# Altium footprint library Header_127.PcbLib: 60 footprints (part 1 of 6)
Each footprint in its own frame and in the unit in brackets; x right, y up, seen from the top. Pads: shape width x height; smd on the part's side, far side on the other; paste and mask are expansions set on the pad; w line width, h text height; cw(c..) or ccw(c..) is an arc to the next point about the centre after c.
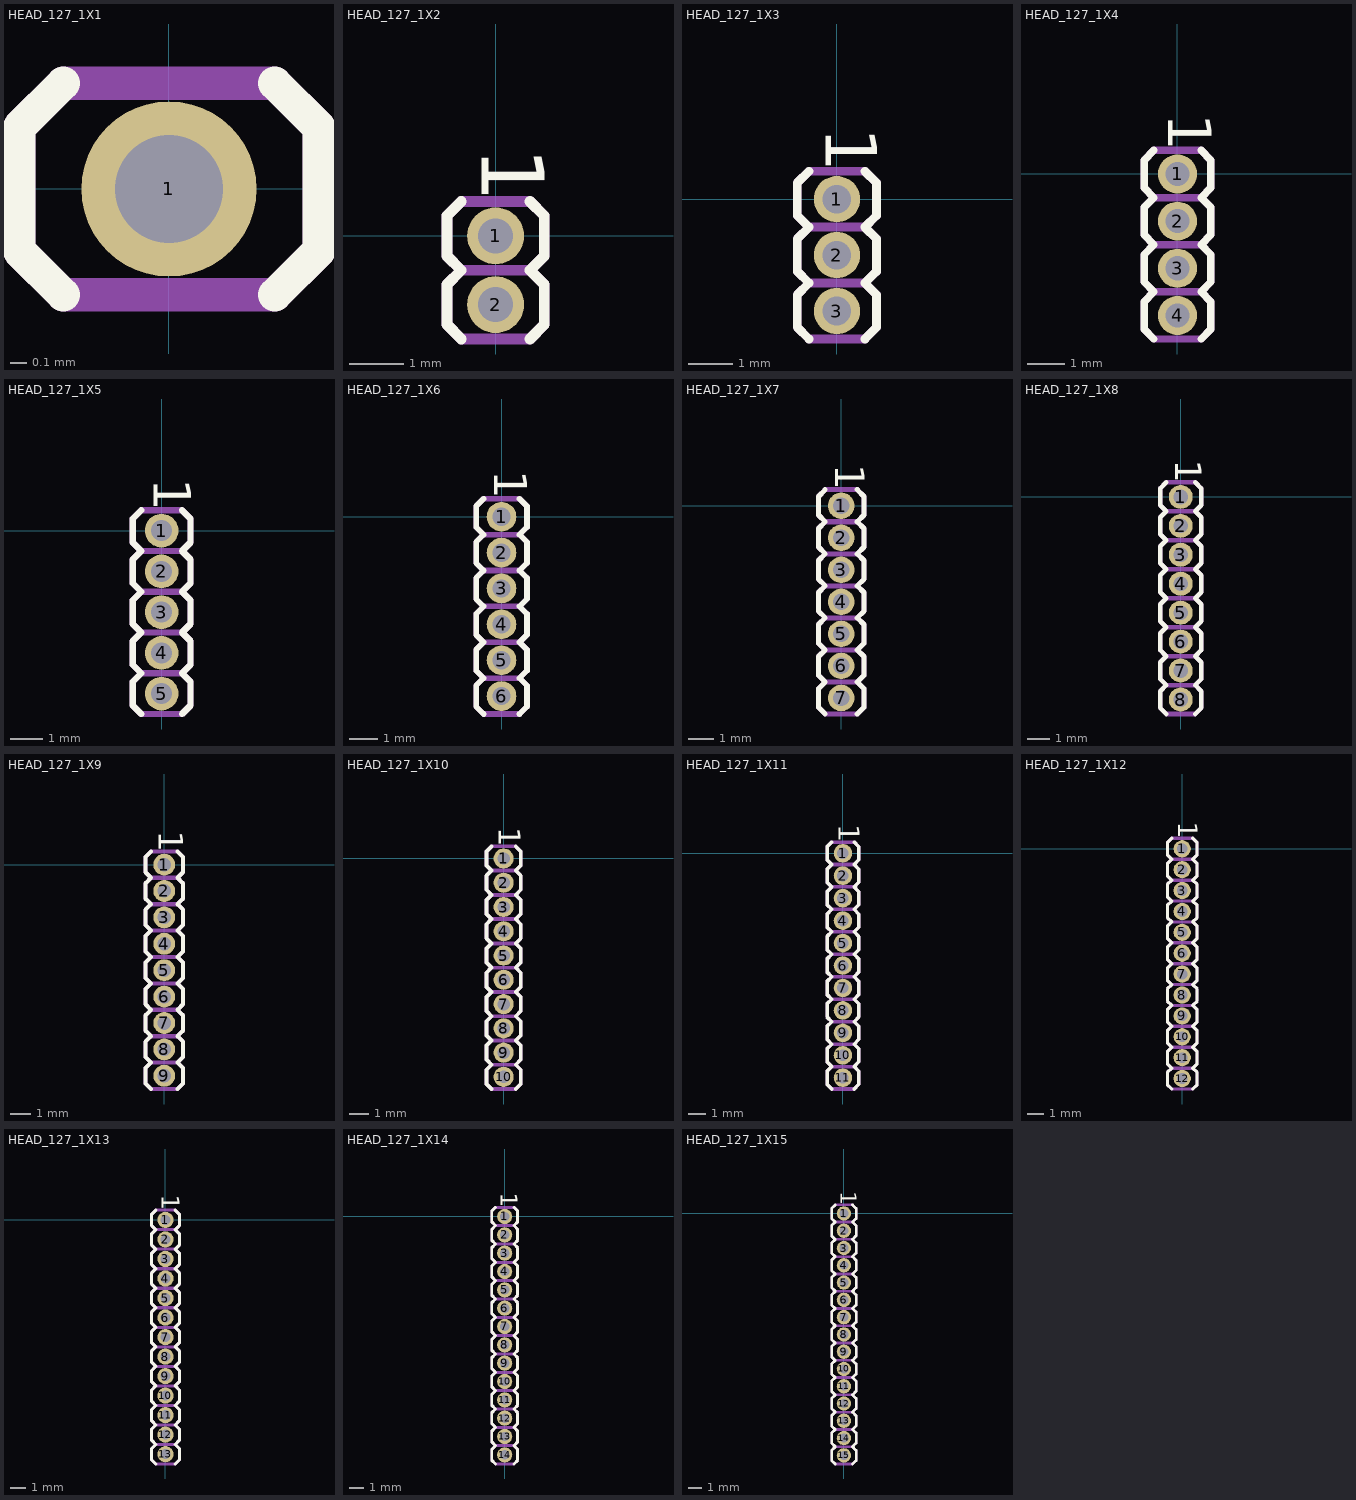
[diagram p0: the footprints below, top view; thin cyan lines are the x and y axes]

## HEAD_127_1X1 [mm] "Header 1.27mm 1x1"
pads (1):
  round 1.05 hole 0.65: 1(0,0)
Top Overlay:
  lines w0.2: -0.635,-0.635 -0.9,-0.37 -0.9,0.37 -0.635,0.635 ; 0.635,-0.635 0.9,-0.37 0.9,0.37 0.635,0.635
Top Assembly:
  lines w0.2: -0.9,-0.37 -0.635,-0.635 0.635,-0.635 0.9,-0.37 0.9,0.37 0.635,0.635 -0.635,0.635 -0.9,0.37 -0.9,-0.37
3D body: height 2, standoff 0, extent -0.9,-0.635 0.9,0.635
3D body: height 10, standoff -3, extent -0.2,-0.2 0.2,0.2

## HEAD_127_1X2 [mm] "Header 1.27mm 1x2"
pads (2):
  round 1.05 hole 0.65: 1(0,0) 2(0,-1.27)
Top Overlay:
  lines w0.2: -0.635,-1.905 -0.9,-1.64 -0.9,-0.9 -0.635,-0.635 -0.9,-0.37 -0.9,0.37 -0.635,0.635 ; 0.635,-1.905 0.9,-1.64 0.9,-0.9 0.635,-0.635 0.9,-0.37 0.9,0.37 0.635,0.635
  text "1" at -0.642,1.636 h2
Bottom Overlay:
  text "1" at -0.642,0.864 h2
Top Assembly:
  lines w0.2: -0.635,-0.635 -0.9,-0.9 -0.9,-1.64 -0.635,-1.905 0.635,-1.905 0.9,-1.64 0.9,-0.9 0.635,-0.635 ; -0.635,-0.635 0.635,-0.635 ; -0.635,-0.635 -0.9,-0.37 -0.9,0.37 -0.635,0.635 0.635,0.635 0.9,0.37 0.9,-0.37 0.635,-0.635 ; -0.635,-0.635 0.635,-0.635
3D body: height 2, standoff 0, extent -0.9,-1.905 0.9,-0.635
3D body: height 10, standoff -3, extent -0.2,-1.47 0.2,-1.07
3D body: height 2, standoff 0, extent -0.9,-0.635 0.9,0.635
3D body: height 10, standoff -3, extent -0.2,-0.2 0.2,0.2

## HEAD_127_1X3 [mm] "Header 1.27mm 1x3"
pads (3):
  round 1.05 hole 0.65: 1(0,0) 2(0,-1.27) 3(0,-2.54)
Top Overlay:
  lines w0.2: -0.635,-3.175 -0.9,-2.91 -0.9,-2.17 -0.635,-1.905 -0.9,-1.64 -0.9,-0.9 -0.635,-0.635 -0.9,-0.37 -0.9,0.37 -0.635,0.635 ; 0.635,-3.175 0.9,-2.91 0.9,-2.17 0.635,-1.905 0.9,-1.64 0.9,-0.9 0.635,-0.635 0.9,-0.37 0.9,0.37 0.635,0.635
  text "1" at -0.642,1.636 h2
Bottom Overlay:
  text "1" at -0.642,0.864 h2
Top Assembly:
  lines w0.2: -0.635,-1.905 0.635,-1.905 ; -0.635,-1.905 -0.9,-2.17 -0.9,-2.91 -0.635,-3.175 0.635,-3.175 0.9,-2.91 0.9,-2.17 0.635,-1.905 ; -0.635,-1.905 0.635,-1.905 ; -0.635,-1.905 -0.9,-1.64 -0.9,-0.9 -0.635,-0.635 ; -0.635,-0.635 0.635,-0.635 ; -0.635,-0.635 0.635,-0.635 ; -0.635,-0.635 -0.9,-0.37 -0.9,0.37 -0.635,0.635 0.635,0.635 0.9,0.37 0.9,-0.37 0.635,-0.635 ; 0.635,-1.905 0.9,-1.64 0.9,-0.9 0.635,-0.635
3D body: height 10, standoff -3, extent -0.2,-2.74 0.2,-2.34
3D body: height 2, standoff 0, extent -0.9,-3.175 0.9,-1.905
3D body: height 10, standoff -3, extent -0.2,-1.47 0.2,-1.07
3D body: height 2, standoff 0, extent -0.9,-1.905 0.9,-0.635
3D body: height 10, standoff -3, extent -0.2,-0.2 0.2,0.2
3D body: height 2, standoff 0, extent -0.9,-0.635 0.9,0.635

## HEAD_127_1X4 [mm] "Header 1.27mm 1x4"
pads (4):
  round 1.05 hole 0.65: 1(0,0) 2(0,-1.27) 3(0,-2.54) 4(0,-3.81)
Top Overlay:
  lines w0.2: -0.635,-4.445 -0.9,-4.18 -0.9,-3.44 -0.635,-3.175 -0.9,-2.91 -0.9,-2.17 -0.635,-1.905 -0.9,-1.64 -0.9,-0.9 -0.635,-0.635 -0.9,-0.37 -0.9,0.37 -0.635,0.635 ; 0.635,-4.445 0.9,-4.18 0.9,-3.44 0.635,-3.175 0.9,-2.91 0.9,-2.17 0.635,-1.905 0.9,-1.64 0.9,-0.9 0.635,-0.635 0.9,-0.37 0.9,0.37 0.635,0.635
  text "1" at -0.642,1.636 h2
Bottom Overlay:
  text "1" at -0.642,0.864 h2
Top Assembly:
  lines w0.2: -0.635,-3.175 0.635,-3.175 ; -0.635,-3.175 -0.9,-3.44 -0.9,-4.18 -0.635,-4.445 0.635,-4.445 0.9,-4.18 0.9,-3.44 0.635,-3.175 ; -0.635,-3.175 -0.9,-2.91 -0.9,-2.17 -0.635,-1.905 ; -0.635,-1.905 0.635,-1.905 ; -0.635,-1.905 -0.9,-1.64 -0.9,-0.9 -0.635,-0.635 ; -0.635,-0.635 0.635,-0.635 ; -0.635,-0.635 -0.9,-0.37 -0.9,0.37 -0.635,0.635 0.635,0.635 0.9,0.37 0.9,-0.37 0.635,-0.635 ; 0.635,-3.175 0.9,-2.91 0.9,-2.17 0.635,-1.905 ; 0.635,-1.905 0.9,-1.64 0.9,-0.9 0.635,-0.635
3D body: height 10, standoff -3, extent -0.2,-4.01 0.2,-3.61
3D body: height 2, standoff 0, extent -0.9,-4.445 0.9,-3.175
3D body: height 10, standoff -3, extent -0.2,-2.74 0.2,-2.34
3D body: height 2, standoff 0, extent -0.9,-3.175 0.9,-1.905
3D body: height 10, standoff -3, extent -0.2,-1.47 0.2,-1.07
3D body: height 2, standoff 0, extent -0.9,-1.905 0.9,-0.635
3D body: height 10, standoff -3, extent -0.2,-0.2 0.2,0.2
3D body: height 2, standoff 0, extent -0.9,-0.635 0.9,0.635

## HEAD_127_1X5 [mm] "Header 1.27mm 1x5"
pads (5):
  round 1.05 hole 0.65: 1(0,0) 2(0,-1.27) 3(0,-2.54) 4(0,-3.81) 5(0,-5.08)
Top Overlay:
  lines w0.2: -0.635,-5.715 -0.9,-5.45 -0.9,-4.71 -0.635,-4.445 -0.9,-4.18 -0.9,-3.44 -0.635,-3.175 -0.9,-2.91 -0.9,-2.17 -0.635,-1.905 -0.9,-1.64 -0.9,-0.9 -0.635,-0.635 -0.9,-0.37 -0.9,0.37 -0.635,0.635 ; 0.635,-5.715 0.9,-5.45 0.9,-4.71 0.635,-4.445 0.9,-4.18 0.9,-3.44 0.635,-3.175 0.9,-2.91 0.9,-2.17 0.635,-1.905 0.9,-1.64 0.9,-0.9 0.635,-0.635 0.9,-0.37 0.9,0.37 0.635,0.635
  text "1" at -0.642,1.636 h2
Bottom Overlay:
  text "1" at -0.642,0.864 h2
Top Assembly:
  lines w0.2: -0.635,-4.445 0.635,-4.445 ; -0.635,-4.445 -0.9,-4.71 -0.9,-5.45 -0.635,-5.715 0.635,-5.715 0.9,-5.45 0.9,-4.71 0.635,-4.445 ; -0.635,-4.445 0.635,-4.445 ; -0.635,-4.445 -0.9,-4.18 -0.9,-3.44 -0.635,-3.175 ; -0.635,-3.175 0.635,-3.175 ; -0.635,-3.175 0.635,-3.175 ; -0.635,-3.175 -0.9,-2.91 -0.9,-2.17 -0.635,-1.905 ; -0.635,-1.905 0.635,-1.905 ; -0.635,-1.905 0.635,-1.905 ; -0.635,-1.905 -0.9,-1.64 -0.9,-0.9 -0.635,-0.635 ; -0.635,-0.635 0.635,-0.635 ; -0.635,-0.635 0.635,-0.635 ; -0.635,-0.635 -0.9,-0.37 -0.9,0.37 -0.635,0.635 0.635,0.635 0.9,0.37 0.9,-0.37 0.635,-0.635 ; 0.635,-4.445 0.9,-4.18 0.9,-3.44 0.635,-3.175 ; 0.635,-3.175 0.9,-2.91 0.9,-2.17 0.635,-1.905 ; 0.635,-1.905 0.9,-1.64 0.9,-0.9 0.635,-0.635
3D body: height 10, standoff -3, extent -0.2,-5.28 0.2,-4.88
3D body: height 2, standoff 0, extent -0.9,-5.715 0.9,-4.445
3D body: height 10, standoff -3, extent -0.2,-4.01 0.2,-3.61
3D body: height 2, standoff 0, extent -0.9,-4.445 0.9,-3.175
3D body: height 10, standoff -3, extent -0.2,-2.74 0.2,-2.34
3D body: height 2, standoff 0, extent -0.9,-3.175 0.9,-1.905
3D body: height 10, standoff -3, extent -0.2,-1.47 0.2,-1.07
3D body: height 2, standoff 0, extent -0.9,-1.905 0.9,-0.635
3D body: height 10, standoff -3, extent -0.2,-0.2 0.2,0.2
3D body: height 2, standoff 0, extent -0.9,-0.635 0.9,0.635

## HEAD_127_1X6 [mm] "Header 1.27mm 1x6"
pads (6):
  round 1.05 hole 0.65: 1(0,0) 2(0,-1.27) 3(0,-2.54) 4(0,-3.81) 5(0,-5.08) 6(0,-6.35)
Top Overlay:
  lines w0.2: -0.635,-6.985 -0.9,-6.72 -0.9,-5.98 -0.635,-5.715 -0.9,-5.45 -0.9,-4.71 -0.635,-4.445 -0.9,-4.18 -0.9,-3.44 -0.635,-3.175 -0.9,-2.91 -0.9,-2.17 -0.635,-1.905 -0.9,-1.64 -0.9,-0.9 -0.635,-0.635 -0.9,-0.37 -0.9,0.37 -0.635,0.635 ; 0.635,-6.985 0.9,-6.72 0.9,-5.98 0.635,-5.715 0.9,-5.45 0.9,-4.71 0.635,-4.445 0.9,-4.18 0.9,-3.44 0.635,-3.175 0.9,-2.91 0.9,-2.17 0.635,-1.905 0.9,-1.64 0.9,-0.9 0.635,-0.635 0.9,-0.37 0.9,0.37 0.635,0.635
  text "1" at -0.642,1.636 h2
Bottom Overlay:
  text "1" at -0.642,0.864 h2
Top Assembly:
  lines w0.2: -0.635,-5.715 -0.9,-5.98 -0.9,-6.72 -0.635,-6.985 0.635,-6.985 0.9,-6.72 0.9,-5.98 0.635,-5.715 ; -0.635,-5.715 0.635,-5.715 ; -0.635,-5.715 -0.9,-5.45 -0.9,-4.71 -0.635,-4.445 ; -0.635,-5.715 0.635,-5.715 ; -0.635,-4.445 0.635,-4.445 ; -0.635,-4.445 -0.9,-4.18 -0.9,-3.44 -0.635,-3.175 ; -0.635,-4.445 0.635,-4.445 ; -0.635,-3.175 0.635,-3.175 ; -0.635,-3.175 -0.9,-2.91 -0.9,-2.17 -0.635,-1.905 ; -0.635,-3.175 0.635,-3.175 ; -0.635,-1.905 0.635,-1.905 ; -0.635,-1.905 -0.9,-1.64 -0.9,-0.9 -0.635,-0.635 ; -0.635,-1.905 0.635,-1.905 ; -0.635,-0.635 0.635,-0.635 ; -0.635,-0.635 -0.9,-0.37 -0.9,0.37 -0.635,0.635 0.635,0.635 0.9,0.37 0.9,-0.37 0.635,-0.635 ; -0.635,-0.635 0.635,-0.635 ; 0.635,-5.715 0.9,-5.45 0.9,-4.71 0.635,-4.445 ; 0.635,-4.445 0.9,-4.18 0.9,-3.44 0.635,-3.175 ; 0.635,-3.175 0.9,-2.91 0.9,-2.17 0.635,-1.905 ; 0.635,-1.905 0.9,-1.64 0.9,-0.9 0.635,-0.635
3D body: height 2, standoff 0, extent -0.9,-6.985 0.9,-5.715
3D body: height 10, standoff -3, extent -0.2,-6.55 0.2,-6.15
3D body: height 2, standoff 0, extent -0.9,-5.715 0.9,-4.445
3D body: height 10, standoff -3, extent -0.2,-5.28 0.2,-4.88
3D body: height 2, standoff 0, extent -0.9,-4.445 0.9,-3.175
3D body: height 10, standoff -3, extent -0.2,-4.01 0.2,-3.61
3D body: height 2, standoff 0, extent -0.9,-3.175 0.9,-1.905
3D body: height 10, standoff -3, extent -0.2,-2.74 0.2,-2.34
3D body: height 2, standoff 0, extent -0.9,-1.905 0.9,-0.635
3D body: height 10, standoff -3, extent -0.2,-1.47 0.2,-1.07
3D body: height 2, standoff 0, extent -0.9,-0.635 0.9,0.635
3D body: height 10, standoff -3, extent -0.2,-0.2 0.2,0.2

## HEAD_127_1X7 [mm] "Header 1.27mm 1x7"
pads (7):
  round 1.05 hole 0.65: 1(0,0) 2(0,-1.27) 3(0,-2.54) 4(0,-3.81) 5(0,-5.08) 6(0,-6.35) 7(0,-7.62)
Top Overlay:
  lines w0.2: -0.635,-8.255 -0.9,-7.99 -0.9,-7.25 -0.635,-6.985 -0.9,-6.72 -0.9,-5.98 -0.635,-5.715 -0.9,-5.45 -0.9,-4.71 -0.635,-4.445 -0.9,-4.18 -0.9,-3.44 -0.635,-3.175 -0.9,-2.91 -0.9,-2.17 -0.635,-1.905 -0.9,-1.64 -0.9,-0.9 -0.635,-0.635 -0.9,-0.37 -0.9,0.37 -0.635,0.635 ; 0.635,-8.255 0.9,-7.99 0.9,-7.25 0.635,-6.985 0.9,-6.72 0.9,-5.98 0.635,-5.715 0.9,-5.45 0.9,-4.71 0.635,-4.445 0.9,-4.18 0.9,-3.44 0.635,-3.175 0.9,-2.91 0.9,-2.17 0.635,-1.905 0.9,-1.64 0.9,-0.9 0.635,-0.635 0.9,-0.37 0.9,0.37 0.635,0.635
  text "1" at -0.642,1.636 h2
Bottom Overlay:
  text "1" at -0.642,0.864 h2
Top Assembly:
  lines w0.2: -0.635,-6.985 0.635,-6.985 ; -0.635,-6.985 -0.9,-6.72 -0.9,-5.98 -0.635,-5.715 ; -0.635,-6.985 0.635,-6.985 ; -0.635,-6.985 -0.9,-7.25 -0.9,-7.99 -0.635,-8.255 0.635,-8.255 0.9,-7.99 0.9,-7.25 0.635,-6.985 ; -0.635,-5.715 0.635,-5.715 ; -0.635,-5.715 -0.9,-5.45 -0.9,-4.71 -0.635,-4.445 ; -0.635,-5.715 0.635,-5.715 ; -0.635,-4.445 0.635,-4.445 ; -0.635,-4.445 -0.9,-4.18 -0.9,-3.44 -0.635,-3.175 ; -0.635,-4.445 0.635,-4.445 ; -0.635,-3.175 0.635,-3.175 ; -0.635,-3.175 -0.9,-2.91 -0.9,-2.17 -0.635,-1.905 ; -0.635,-3.175 0.635,-3.175 ; -0.635,-1.905 0.635,-1.905 ; -0.635,-1.905 -0.9,-1.64 -0.9,-0.9 -0.635,-0.635 ; -0.635,-1.905 0.635,-1.905 ; -0.635,-0.635 0.635,-0.635 ; -0.635,-0.635 -0.9,-0.37 -0.9,0.37 -0.635,0.635 0.635,0.635 0.9,0.37 0.9,-0.37 0.635,-0.635 ; -0.635,-0.635 0.635,-0.635 ; 0.635,-6.985 0.9,-6.72 0.9,-5.98 0.635,-5.715 ; 0.635,-5.715 0.9,-5.45 0.9,-4.71 0.635,-4.445 ; 0.635,-4.445 0.9,-4.18 0.9,-3.44 0.635,-3.175 ; 0.635,-3.175 0.9,-2.91 0.9,-2.17 0.635,-1.905 ; 0.635,-1.905 0.9,-1.64 0.9,-0.9 0.635,-0.635
3D body: height 10, standoff -3, extent -0.2,-0.2 0.2,0.2
3D body: height 2, standoff 0, extent -0.9,-0.635 0.9,0.635
3D body: height 10, standoff -3, extent -0.2,-1.47 0.2,-1.07
3D body: height 2, standoff 0, extent -0.9,-1.905 0.9,-0.635
3D body: height 10, standoff -3, extent -0.2,-2.74 0.2,-2.34
3D body: height 2, standoff 0, extent -0.9,-3.175 0.9,-1.905
3D body: height 10, standoff -3, extent -0.2,-4.01 0.2,-3.61
3D body: height 2, standoff 0, extent -0.9,-4.445 0.9,-3.175
3D body: height 10, standoff -3, extent -0.2,-5.28 0.2,-4.88
3D body: height 2, standoff 0, extent -0.9,-5.715 0.9,-4.445
3D body: height 10, standoff -3, extent -0.2,-6.55 0.2,-6.15
3D body: height 2, standoff 0, extent -0.9,-6.985 0.9,-5.715
3D body: height 10, standoff -3, extent -0.2,-7.82 0.2,-7.42
3D body: height 2, standoff 0, extent -0.9,-8.255 0.9,-6.985

## HEAD_127_1X8 [mm] "Header 1.27mm 1x8"
pads (8):
  round 1.05 hole 0.65: 1(0,0) 2(0,-1.27) 3(0,-2.54) 4(0,-3.81) 5(0,-5.08) 6(0,-6.35) 7(0,-7.62) 8(0,-8.89)
Top Overlay:
  lines w0.2: -0.635,-9.525 -0.9,-9.26 -0.9,-8.52 -0.635,-8.255 -0.9,-7.99 -0.9,-7.25 -0.635,-6.985 -0.9,-6.72 -0.9,-5.98 -0.635,-5.715 -0.9,-5.45 -0.9,-4.71 -0.635,-4.445 -0.9,-4.18 -0.9,-3.44 -0.635,-3.175 -0.9,-2.91 -0.9,-2.17 -0.635,-1.905 -0.9,-1.64 -0.9,-0.9 -0.635,-0.635 -0.9,-0.37 -0.9,0.37 -0.635,0.635 ; 0.635,-9.525 0.9,-9.26 0.9,-8.52 0.635,-8.255 0.9,-7.99 0.9,-7.25 0.635,-6.985 0.9,-6.72 0.9,-5.98 0.635,-5.715 0.9,-5.45 0.9,-4.71 0.635,-4.445 0.9,-4.18 0.9,-3.44 0.635,-3.175 0.9,-2.91 0.9,-2.17 0.635,-1.905 0.9,-1.64 0.9,-0.9 0.635,-0.635 0.9,-0.37 0.9,0.37 0.635,0.635
  text "1" at -0.642,1.636 h2
Bottom Overlay:
  text "1" at -0.642,0.864 h2
Top Assembly:
  lines w0.2: -0.635,-8.255 0.635,-8.255 ; -0.635,-8.255 -0.9,-7.99 -0.9,-7.25 -0.635,-6.985 ; -0.635,-8.255 0.635,-8.255 ; -0.635,-8.255 -0.9,-8.52 -0.9,-9.26 -0.635,-9.525 0.635,-9.525 0.9,-9.26 0.9,-8.52 0.635,-8.255 ; -0.635,-6.985 0.635,-6.985 ; -0.635,-6.985 -0.9,-6.72 -0.9,-5.98 -0.635,-5.715 ; -0.635,-6.985 0.635,-6.985 ; -0.635,-5.715 0.635,-5.715 ; -0.635,-5.715 -0.9,-5.45 -0.9,-4.71 -0.635,-4.445 ; -0.635,-5.715 0.635,-5.715 ; -0.635,-4.445 0.635,-4.445 ; -0.635,-4.445 -0.9,-4.18 -0.9,-3.44 -0.635,-3.175 ; -0.635,-4.445 0.635,-4.445 ; -0.635,-3.175 0.635,-3.175 ; -0.635,-3.175 -0.9,-2.91 -0.9,-2.17 -0.635,-1.905 ; -0.635,-3.175 0.635,-3.175 ; -0.635,-1.905 0.635,-1.905 ; -0.635,-1.905 -0.9,-1.64 -0.9,-0.9 -0.635,-0.635 ; -0.635,-1.905 0.635,-1.905 ; -0.635,-0.635 0.635,-0.635 ; -0.635,-0.635 -0.9,-0.37 -0.9,0.37 -0.635,0.635 0.635,0.635 0.9,0.37 0.9,-0.37 0.635,-0.635 ; -0.635,-0.635 0.635,-0.635 ; 0.635,-8.255 0.9,-7.99 0.9,-7.25 0.635,-6.985 ; 0.635,-6.985 0.9,-6.72 0.9,-5.98 0.635,-5.715 ; 0.635,-5.715 0.9,-5.45 0.9,-4.71 0.635,-4.445 ; 0.635,-4.445 0.9,-4.18 0.9,-3.44 0.635,-3.175 ; 0.635,-3.175 0.9,-2.91 0.9,-2.17 0.635,-1.905 ; 0.635,-1.905 0.9,-1.64 0.9,-0.9 0.635,-0.635
3D body: height 10, standoff -3, extent -0.2,-0.2 0.2,0.2
3D body: height 2, standoff 0, extent -0.9,-0.635 0.9,0.635
3D body: height 10, standoff -3, extent -0.2,-1.47 0.2,-1.07
3D body: height 2, standoff 0, extent -0.9,-1.905 0.9,-0.635
3D body: height 10, standoff -3, extent -0.2,-2.74 0.2,-2.34
3D body: height 2, standoff 0, extent -0.9,-3.175 0.9,-1.905
3D body: height 10, standoff -3, extent -0.2,-4.01 0.2,-3.61
3D body: height 2, standoff 0, extent -0.9,-4.445 0.9,-3.175
3D body: height 10, standoff -3, extent -0.2,-5.28 0.2,-4.88
3D body: height 2, standoff 0, extent -0.9,-5.715 0.9,-4.445
3D body: height 10, standoff -3, extent -0.2,-6.55 0.2,-6.15
3D body: height 2, standoff 0, extent -0.9,-6.985 0.9,-5.715
3D body: height 10, standoff -3, extent -0.2,-7.82 0.2,-7.42
3D body: height 2, standoff 0, extent -0.9,-8.255 0.9,-6.985
3D body: height 10, standoff -3, extent -0.2,-9.09 0.2,-8.69
3D body: height 2, standoff 0, extent -0.9,-9.525 0.9,-8.255

## HEAD_127_1X9 [mm] "Header 1.27mm 1x9"
pads (9):
  round 1.05 hole 0.65: 1(0,0) 2(0,-1.27) 3(0,-2.54) 4(0,-3.81) 5(0,-5.08) 6(0,-6.35) 7(0,-7.62) 8(0,-8.89) 9(0,-10.16)
Top Overlay:
  lines w0.2: -0.635,-10.795 -0.9,-10.53 -0.9,-9.79 -0.635,-9.525 -0.9,-9.26 -0.9,-8.52 -0.635,-8.255 -0.9,-7.99 -0.9,-7.25 -0.635,-6.985 -0.9,-6.72 -0.9,-5.98 -0.635,-5.715 -0.9,-5.45 -0.9,-4.71 -0.635,-4.445 -0.9,-4.18 -0.9,-3.44 -0.635,-3.175 -0.9,-2.91 -0.9,-2.17 -0.635,-1.905 -0.9,-1.64 -0.9,-0.9 -0.635,-0.635 -0.9,-0.37 -0.9,0.37 -0.635,0.635 ; 0.635,-10.795 0.9,-10.53 0.9,-9.79 0.635,-9.525 0.9,-9.26 0.9,-8.52 0.635,-8.255 0.9,-7.99 0.9,-7.25 0.635,-6.985 0.9,-6.72 0.9,-5.98 0.635,-5.715 0.9,-5.45 0.9,-4.71 0.635,-4.445 0.9,-4.18 0.9,-3.44 0.635,-3.175 0.9,-2.91 0.9,-2.17 0.635,-1.905 0.9,-1.64 0.9,-0.9 0.635,-0.635 0.9,-0.37 0.9,0.37 0.635,0.635
  text "1" at -0.642,1.636 h2
Bottom Overlay:
  text "1" at -0.642,0.864 h2
Top Assembly:
  lines w0.2: -0.635,-9.525 -0.9,-9.26 -0.9,-8.52 -0.635,-8.255 ; -0.635,-9.525 0.635,-9.525 ; -0.635,-9.525 -0.9,-9.79 -0.9,-10.53 -0.635,-10.795 0.635,-10.795 0.9,-10.53 0.9,-9.79 0.635,-9.525 ; -0.635,-8.255 0.635,-8.255 ; -0.635,-8.255 -0.9,-7.99 -0.9,-7.25 -0.635,-6.985 ; -0.635,-8.255 0.635,-8.255 ; -0.635,-6.985 0.635,-6.985 ; -0.635,-6.985 -0.9,-6.72 -0.9,-5.98 -0.635,-5.715 ; -0.635,-6.985 0.635,-6.985 ; -0.635,-5.715 0.635,-5.715 ; -0.635,-5.715 -0.9,-5.45 -0.9,-4.71 -0.635,-4.445 ; -0.635,-5.715 0.635,-5.715 ; -0.635,-4.445 0.635,-4.445 ; -0.635,-4.445 -0.9,-4.18 -0.9,-3.44 -0.635,-3.175 ; -0.635,-4.445 0.635,-4.445 ; -0.635,-3.175 0.635,-3.175 ; -0.635,-3.175 -0.9,-2.91 -0.9,-2.17 -0.635,-1.905 ; -0.635,-3.175 0.635,-3.175 ; -0.635,-1.905 0.635,-1.905 ; -0.635,-1.905 -0.9,-1.64 -0.9,-0.9 -0.635,-0.635 ; -0.635,-1.905 0.635,-1.905 ; -0.635,-0.635 0.635,-0.635 ; -0.635,-0.635 -0.9,-0.37 -0.9,0.37 -0.635,0.635 0.635,0.635 0.9,0.37 0.9,-0.37 0.635,-0.635 ; -0.635,-0.635 0.635,-0.635 ; 0.635,-9.525 0.9,-9.26 0.9,-8.52 0.635,-8.255 ; 0.635,-8.255 0.9,-7.99 0.9,-7.25 0.635,-6.985 ; 0.635,-6.985 0.9,-6.72 0.9,-5.98 0.635,-5.715 ; 0.635,-5.715 0.9,-5.45 0.9,-4.71 0.635,-4.445 ; 0.635,-4.445 0.9,-4.18 0.9,-3.44 0.635,-3.175 ; 0.635,-3.175 0.9,-2.91 0.9,-2.17 0.635,-1.905 ; 0.635,-1.905 0.9,-1.64 0.9,-0.9 0.635,-0.635
3D body: height 10, standoff -3, extent -0.2,-0.2 0.2,0.2
3D body: height 2, standoff 0, extent -0.9,-0.635 0.9,0.635
3D body: height 10, standoff -3, extent -0.2,-1.47 0.2,-1.07
3D body: height 2, standoff 0, extent -0.9,-1.905 0.9,-0.635
3D body: height 10, standoff -3, extent -0.2,-2.74 0.2,-2.34
3D body: height 2, standoff 0, extent -0.9,-3.175 0.9,-1.905
3D body: height 10, standoff -3, extent -0.2,-4.01 0.2,-3.61
3D body: height 2, standoff 0, extent -0.9,-4.445 0.9,-3.175
3D body: height 10, standoff -3, extent -0.2,-5.28 0.2,-4.88
3D body: height 2, standoff 0, extent -0.9,-5.715 0.9,-4.445
3D body: height 10, standoff -3, extent -0.2,-6.55 0.2,-6.15
3D body: height 2, standoff 0, extent -0.9,-6.985 0.9,-5.715
3D body: height 10, standoff -3, extent -0.2,-7.82 0.2,-7.42
3D body: height 2, standoff 0, extent -0.9,-8.255 0.9,-6.985
3D body: height 2, standoff 0, extent -0.9,-9.525 0.9,-8.255
3D body: height 10, standoff -3, extent -0.2,-9.09 0.2,-8.69
3D body: height 2, standoff 0, extent -0.9,-10.795 0.9,-9.525
3D body: height 10, standoff -3, extent -0.2,-10.36 0.2,-9.96

## HEAD_127_1X10 [mm] "Header 1.27mm 1x10"
pads (10):
  round 1.05 hole 0.65: 1(0,0) 2(0,-1.27) 3(0,-2.54) 4(0,-3.81) 5(0,-5.08) 6(0,-6.35) 7(0,-7.62) 8(0,-8.89) 9(0,-10.16) 10(0,-11.43)
Top Overlay:
  lines w0.2: -0.635,-12.065 -0.9,-11.8 -0.9,-11.06 -0.635,-10.795 -0.9,-10.53 -0.9,-9.79 -0.635,-9.525 -0.9,-9.26 -0.9,-8.52 -0.635,-8.255 -0.9,-7.99 -0.9,-7.25 -0.635,-6.985 -0.9,-6.72 -0.9,-5.98 -0.635,-5.715 -0.9,-5.45 -0.9,-4.71 -0.635,-4.445 -0.9,-4.18 -0.9,-3.44 -0.635,-3.175 -0.9,-2.91 -0.9,-2.17 -0.635,-1.905 -0.9,-1.64 -0.9,-0.9 -0.635,-0.635 -0.9,-0.37 -0.9,0.37 -0.635,0.635 ; 0.635,-12.065 0.9,-11.8 0.9,-11.06 0.635,-10.795 0.9,-10.53 0.9,-9.79 0.635,-9.525 0.9,-9.26 0.9,-8.52 0.635,-8.255 0.9,-7.99 0.9,-7.25 0.635,-6.985 0.9,-6.72 0.9,-5.98 0.635,-5.715 0.9,-5.45 0.9,-4.71 0.635,-4.445 0.9,-4.18 0.9,-3.44 0.635,-3.175 0.9,-2.91 0.9,-2.17 0.635,-1.905 0.9,-1.64 0.9,-0.9 0.635,-0.635 0.9,-0.37 0.9,0.37 0.635,0.635
  text "1" at -0.642,1.636 h2
Bottom Overlay:
  text "1" at -0.642,0.864 h2
Top Assembly:
  lines w0.2: -0.635,-10.795 -0.9,-11.06 -0.9,-11.8 -0.635,-12.065 0.635,-12.065 0.9,-11.8 0.9,-11.06 0.635,-10.795 ; -0.635,-10.795 -0.9,-10.53 -0.9,-9.79 -0.635,-9.525 ; -0.635,-10.795 0.635,-10.795 ; -0.635,-9.525 -0.9,-9.26 -0.9,-8.52 -0.635,-8.255 ; -0.635,-9.525 0.635,-9.525 ; -0.635,-8.255 0.635,-8.255 ; -0.635,-8.255 -0.9,-7.99 -0.9,-7.25 -0.635,-6.985 ; -0.635,-8.255 0.635,-8.255 ; -0.635,-6.985 0.635,-6.985 ; -0.635,-6.985 -0.9,-6.72 -0.9,-5.98 -0.635,-5.715 ; -0.635,-6.985 0.635,-6.985 ; -0.635,-5.715 0.635,-5.715 ; -0.635,-5.715 -0.9,-5.45 -0.9,-4.71 -0.635,-4.445 ; -0.635,-5.715 0.635,-5.715 ; -0.635,-4.445 0.635,-4.445 ; -0.635,-4.445 -0.9,-4.18 -0.9,-3.44 -0.635,-3.175 ; -0.635,-4.445 0.635,-4.445 ; -0.635,-3.175 0.635,-3.175 ; -0.635,-3.175 -0.9,-2.91 -0.9,-2.17 -0.635,-1.905 ; -0.635,-3.175 0.635,-3.175 ; -0.635,-1.905 0.635,-1.905 ; -0.635,-1.905 -0.9,-1.64 -0.9,-0.9 -0.635,-0.635 ; -0.635,-1.905 0.635,-1.905 ; -0.635,-0.635 0.635,-0.635 ; -0.635,-0.635 -0.9,-0.37 -0.9,0.37 -0.635,0.635 0.635,0.635 0.9,0.37 0.9,-0.37 0.635,-0.635 ; -0.635,-0.635 0.635,-0.635 ; 0.635,-10.795 0.9,-10.53 0.9,-9.79 0.635,-9.525 ; 0.635,-9.525 0.9,-9.26 0.9,-8.52 0.635,-8.255 ; 0.635,-8.255 0.9,-7.99 0.9,-7.25 0.635,-6.985 ; 0.635,-6.985 0.9,-6.72 0.9,-5.98 0.635,-5.715 ; 0.635,-5.715 0.9,-5.45 0.9,-4.71 0.635,-4.445 ; 0.635,-4.445 0.9,-4.18 0.9,-3.44 0.635,-3.175 ; 0.635,-3.175 0.9,-2.91 0.9,-2.17 0.635,-1.905 ; 0.635,-1.905 0.9,-1.64 0.9,-0.9 0.635,-0.635
3D body: height 2, standoff 0, extent -0.9,-12.065 0.9,-10.795
3D body: height 10, standoff -3, extent -0.2,-11.63 0.2,-11.23
3D body: height 10, standoff -3, extent -0.2,-0.2 0.2,0.2
3D body: height 2, standoff 0, extent -0.9,-0.635 0.9,0.635
3D body: height 10, standoff -3, extent -0.2,-1.47 0.2,-1.07
3D body: height 2, standoff 0, extent -0.9,-1.905 0.9,-0.635
3D body: height 10, standoff -3, extent -0.2,-2.74 0.2,-2.34
3D body: height 2, standoff 0, extent -0.9,-3.175 0.9,-1.905
3D body: height 10, standoff -3, extent -0.2,-4.01 0.2,-3.61
3D body: height 2, standoff 0, extent -0.9,-4.445 0.9,-3.175
3D body: height 10, standoff -3, extent -0.2,-5.28 0.2,-4.88
3D body: height 2, standoff 0, extent -0.9,-5.715 0.9,-4.445
3D body: height 10, standoff -3, extent -0.2,-6.55 0.2,-6.15
3D body: height 2, standoff 0, extent -0.9,-6.985 0.9,-5.715
3D body: height 10, standoff -3, extent -0.2,-7.82 0.2,-7.42
3D body: height 2, standoff 0, extent -0.9,-8.255 0.9,-6.985
3D body: height 2, standoff 0, extent -0.9,-9.525 0.9,-8.255
3D body: height 10, standoff -3, extent -0.2,-9.09 0.2,-8.69
3D body: height 2, standoff 0, extent -0.9,-10.795 0.9,-9.525
3D body: height 10, standoff -3, extent -0.2,-10.36 0.2,-9.96

## HEAD_127_1X11 [mm] "Header 1.27mm 1x11"
pads (11):
  round 1.05 hole 0.65: 1(0,0) 2(0,-1.27) 3(0,-2.54) 4(0,-3.81) 5(0,-5.08) 6(0,-6.35) 7(0,-7.62) 8(0,-8.89) 9(0,-10.16) 10(0,-11.43) 11(0,-12.7)
Top Overlay:
  lines w0.2: -0.635,-13.335 -0.9,-13.07 -0.9,-12.33 -0.635,-12.065 -0.9,-11.8 -0.9,-11.06 -0.635,-10.795 -0.9,-10.53 -0.9,-9.79 -0.635,-9.525 -0.9,-9.26 -0.9,-8.52 -0.635,-8.255 -0.9,-7.99 -0.9,-7.25 -0.635,-6.985 -0.9,-6.72 -0.9,-5.98 -0.635,-5.715 -0.9,-5.45 -0.9,-4.71 -0.635,-4.445 -0.9,-4.18 -0.9,-3.44 -0.635,-3.175 -0.9,-2.91 -0.9,-2.17 -0.635,-1.905 -0.9,-1.64 -0.9,-0.9 -0.635,-0.635 -0.9,-0.37 -0.9,0.37 -0.635,0.635 ; 0.635,-13.335 0.9,-13.07 0.9,-12.33 0.635,-12.065 0.9,-11.8 0.9,-11.06 0.635,-10.795 0.9,-10.53 0.9,-9.79 0.635,-9.525 0.9,-9.26 0.9,-8.52 0.635,-8.255 0.9,-7.99 0.9,-7.25 0.635,-6.985 0.9,-6.72 0.9,-5.98 0.635,-5.715 0.9,-5.45 0.9,-4.71 0.635,-4.445 0.9,-4.18 0.9,-3.44 0.635,-3.175 0.9,-2.91 0.9,-2.17 0.635,-1.905 0.9,-1.64 0.9,-0.9 0.635,-0.635 0.9,-0.37 0.9,0.37 0.635,0.635
  text "1" at -0.642,1.636 h2
Bottom Overlay:
  text "1" at -0.642,0.864 h2
Top Assembly:
  lines w0.2: -0.635,-12.065 -0.9,-12.33 -0.9,-13.07 -0.635,-13.335 0.635,-13.335 0.9,-13.07 0.9,-12.33 0.635,-12.065 ; -0.635,-12.065 -0.9,-11.8 -0.9,-11.06 -0.635,-10.795 ; -0.635,-12.065 0.635,-12.065 ; -0.635,-10.795 -0.9,-10.53 -0.9,-9.79 -0.635,-9.525 ; -0.635,-10.795 0.635,-10.795 ; -0.635,-9.525 -0.9,-9.26 -0.9,-8.52 -0.635,-8.255 ; -0.635,-9.525 0.635,-9.525 ; -0.635,-8.255 0.635,-8.255 ; -0.635,-8.255 -0.9,-7.99 -0.9,-7.25 -0.635,-6.985 ; -0.635,-8.255 0.635,-8.255 ; -0.635,-6.985 0.635,-6.985 ; -0.635,-6.985 -0.9,-6.72 -0.9,-5.98 -0.635,-5.715 ; -0.635,-6.985 0.635,-6.985 ; -0.635,-5.715 0.635,-5.715 ; -0.635,-5.715 -0.9,-5.45 -0.9,-4.71 -0.635,-4.445 ; -0.635,-5.715 0.635,-5.715 ; -0.635,-4.445 0.635,-4.445 ; -0.635,-4.445 -0.9,-4.18 -0.9,-3.44 -0.635,-3.175 ; -0.635,-4.445 0.635,-4.445 ; -0.635,-3.175 0.635,-3.175 ; -0.635,-3.175 -0.9,-2.91 -0.9,-2.17 -0.635,-1.905 ; -0.635,-3.175 0.635,-3.175 ; -0.635,-1.905 0.635,-1.905 ; -0.635,-1.905 -0.9,-1.64 -0.9,-0.9 -0.635,-0.635 ; -0.635,-1.905 0.635,-1.905 ; -0.635,-0.635 0.635,-0.635 ; -0.635,-0.635 -0.9,-0.37 -0.9,0.37 -0.635,0.635 0.635,0.635 0.9,0.37 0.9,-0.37 0.635,-0.635 ; -0.635,-0.635 0.635,-0.635 ; 0.635,-12.065 0.9,-11.8 0.9,-11.06 0.635,-10.795 ; 0.635,-10.795 0.9,-10.53 0.9,-9.79 0.635,-9.525 ; 0.635,-9.525 0.9,-9.26 0.9,-8.52 0.635,-8.255 ; 0.635,-8.255 0.9,-7.99 0.9,-7.25 0.635,-6.985 ; 0.635,-6.985 0.9,-6.72 0.9,-5.98 0.635,-5.715 ; 0.635,-5.715 0.9,-5.45 0.9,-4.71 0.635,-4.445 ; 0.635,-4.445 0.9,-4.18 0.9,-3.44 0.635,-3.175 ; 0.635,-3.175 0.9,-2.91 0.9,-2.17 0.635,-1.905 ; 0.635,-1.905 0.9,-1.64 0.9,-0.9 0.635,-0.635
3D body: height 2, standoff 0, extent -0.9,-13.335 0.9,-12.065
3D body: height 10, standoff -3, extent -0.2,-12.9 0.2,-12.5
3D body: height 2, standoff 0, extent -0.9,-12.065 0.9,-10.795
3D body: height 10, standoff -3, extent -0.2,-11.63 0.2,-11.23
3D body: height 10, standoff -3, extent -0.2,-0.2 0.2,0.2
3D body: height 2, standoff 0, extent -0.9,-0.635 0.9,0.635
3D body: height 10, standoff -3, extent -0.2,-1.47 0.2,-1.07
3D body: height 2, standoff 0, extent -0.9,-1.905 0.9,-0.635
3D body: height 10, standoff -3, extent -0.2,-2.74 0.2,-2.34
3D body: height 2, standoff 0, extent -0.9,-3.175 0.9,-1.905
3D body: height 10, standoff -3, extent -0.2,-4.01 0.2,-3.61
3D body: height 2, standoff 0, extent -0.9,-4.445 0.9,-3.175
3D body: height 10, standoff -3, extent -0.2,-5.28 0.2,-4.88
3D body: height 2, standoff 0, extent -0.9,-5.715 0.9,-4.445
3D body: height 10, standoff -3, extent -0.2,-6.55 0.2,-6.15
3D body: height 2, standoff 0, extent -0.9,-6.985 0.9,-5.715
3D body: height 10, standoff -3, extent -0.2,-7.82 0.2,-7.42
3D body: height 2, standoff 0, extent -0.9,-8.255 0.9,-6.985
3D body: height 2, standoff 0, extent -0.9,-9.525 0.9,-8.255
3D body: height 10, standoff -3, extent -0.2,-9.09 0.2,-8.69
3D body: height 2, standoff 0, extent -0.9,-10.795 0.9,-9.525
3D body: height 10, standoff -3, extent -0.2,-10.36 0.2,-9.96

## HEAD_127_1X12 [mm] "Header 1.27mm 1x12"
pads (12):
  round 1.05 hole 0.65: 1(0,0) 2(0,-1.27) 3(0,-2.54) 4(0,-3.81) 5(0,-5.08) 6(0,-6.35) 7(0,-7.62) 8(0,-8.89) 9(0,-10.16) 10(0,-11.43) 11(0,-12.7) 12(0,-13.97)
Top Overlay:
  lines w0.2: -0.635,-14.605 -0.9,-14.34 -0.9,-13.6 -0.635,-13.335 -0.9,-13.07 -0.9,-12.33 -0.635,-12.065 -0.9,-11.8 -0.9,-11.06 -0.635,-10.795 -0.9,-10.53 -0.9,-9.79 -0.635,-9.525 -0.9,-9.26 -0.9,-8.52 -0.635,-8.255 -0.9,-7.99 -0.9,-7.25 -0.635,-6.985 -0.9,-6.72 -0.9,-5.98 -0.635,-5.715 -0.9,-5.45 -0.9,-4.71 -0.635,-4.445 -0.9,-4.18 -0.9,-3.44 -0.635,-3.175 -0.9,-2.91 -0.9,-2.17 -0.635,-1.905 -0.9,-1.64 -0.9,-0.9 -0.635,-0.635 -0.9,-0.37 -0.9,0.37 -0.635,0.635 ; 0.635,-14.605 0.9,-14.34 0.9,-13.6 0.635,-13.335 0.9,-13.07 0.9,-12.33 0.635,-12.065 0.9,-11.8 0.9,-11.06 0.635,-10.795 0.9,-10.53 0.9,-9.79 0.635,-9.525 0.9,-9.26 0.9,-8.52 0.635,-8.255 0.9,-7.99 0.9,-7.25 0.635,-6.985 0.9,-6.72 0.9,-5.98 0.635,-5.715 0.9,-5.45 0.9,-4.71 0.635,-4.445 0.9,-4.18 0.9,-3.44 0.635,-3.175 0.9,-2.91 0.9,-2.17 0.635,-1.905 0.9,-1.64 0.9,-0.9 0.635,-0.635 0.9,-0.37 0.9,0.37 0.635,0.635
  text "1" at -0.642,1.636 h2
Bottom Overlay:
  text "1" at -0.642,0.864 h2
Top Assembly:
  lines w0.2: -0.635,-13.335 -0.9,-13.6 -0.9,-14.34 -0.635,-14.605 0.635,-14.605 0.9,-14.34 0.9,-13.6 0.635,-13.335 ; -0.635,-13.335 -0.9,-13.07 -0.9,-12.33 -0.635,-12.065 ; -0.635,-13.335 0.635,-13.335 ; -0.635,-12.065 -0.9,-11.8 -0.9,-11.06 -0.635,-10.795 ; -0.635,-12.065 0.635,-12.065 ; -0.635,-10.795 -0.9,-10.53 -0.9,-9.79 -0.635,-9.525 ; -0.635,-10.795 0.635,-10.795 ; -0.635,-9.525 -0.9,-9.26 -0.9,-8.52 -0.635,-8.255 ; -0.635,-9.525 0.635,-9.525 ; -0.635,-8.255 0.635,-8.255 ; -0.635,-8.255 -0.9,-7.99 -0.9,-7.25 -0.635,-6.985 ; -0.635,-8.255 0.635,-8.255 ; -0.635,-6.985 0.635,-6.985 ; -0.635,-6.985 -0.9,-6.72 -0.9,-5.98 -0.635,-5.715 ; -0.635,-6.985 0.635,-6.985 ; -0.635,-5.715 0.635,-5.715 ; -0.635,-5.715 -0.9,-5.45 -0.9,-4.71 -0.635,-4.445 ; -0.635,-5.715 0.635,-5.715 ; -0.635,-4.445 0.635,-4.445 ; -0.635,-4.445 -0.9,-4.18 -0.9,-3.44 -0.635,-3.175 ; -0.635,-4.445 0.635,-4.445 ; -0.635,-3.175 0.635,-3.175 ; -0.635,-3.175 -0.9,-2.91 -0.9,-2.17 -0.635,-1.905 ; -0.635,-3.175 0.635,-3.175 ; -0.635,-1.905 0.635,-1.905 ; -0.635,-1.905 -0.9,-1.64 -0.9,-0.9 -0.635,-0.635 ; -0.635,-1.905 0.635,-1.905 ; -0.635,-0.635 0.635,-0.635 ; -0.635,-0.635 -0.9,-0.37 -0.9,0.37 -0.635,0.635 0.635,0.635 0.9,0.37 0.9,-0.37 0.635,-0.635 ; -0.635,-0.635 0.635,-0.635 ; 0.635,-13.335 0.9,-13.07 0.9,-12.33 0.635,-12.065 ; 0.635,-12.065 0.9,-11.8 0.9,-11.06 0.635,-10.795 ; 0.635,-10.795 0.9,-10.53 0.9,-9.79 0.635,-9.525 ; 0.635,-9.525 0.9,-9.26 0.9,-8.52 0.635,-8.255 ; 0.635,-8.255 0.9,-7.99 0.9,-7.25 0.635,-6.985 ; 0.635,-6.985 0.9,-6.72 0.9,-5.98 0.635,-5.715 ; 0.635,-5.715 0.9,-5.45 0.9,-4.71 0.635,-4.445 ; 0.635,-4.445 0.9,-4.18 0.9,-3.44 0.635,-3.175 ; 0.635,-3.175 0.9,-2.91 0.9,-2.17 0.635,-1.905 ; 0.635,-1.905 0.9,-1.64 0.9,-0.9 0.635,-0.635
3D body: height 2, standoff 0, extent -0.9,-14.605 0.9,-13.335
3D body: height 10, standoff -3, extent -0.2,-14.17 0.2,-13.77
3D body: height 2, standoff 0, extent -0.9,-13.335 0.9,-12.065
3D body: height 10, standoff -3, extent -0.2,-12.9 0.2,-12.5
3D body: height 2, standoff 0, extent -0.9,-12.065 0.9,-10.795
3D body: height 10, standoff -3, extent -0.2,-11.63 0.2,-11.23
3D body: height 10, standoff -3, extent -0.2,-0.2 0.2,0.2
3D body: height 2, standoff 0, extent -0.9,-0.635 0.9,0.635
3D body: height 10, standoff -3, extent -0.2,-1.47 0.2,-1.07
3D body: height 2, standoff 0, extent -0.9,-1.905 0.9,-0.635
3D body: height 10, standoff -3, extent -0.2,-2.74 0.2,-2.34
3D body: height 2, standoff 0, extent -0.9,-3.175 0.9,-1.905
3D body: height 10, standoff -3, extent -0.2,-4.01 0.2,-3.61
3D body: height 2, standoff 0, extent -0.9,-4.445 0.9,-3.175
3D body: height 10, standoff -3, extent -0.2,-5.28 0.2,-4.88
3D body: height 2, standoff 0, extent -0.9,-5.715 0.9,-4.445
3D body: height 10, standoff -3, extent -0.2,-6.55 0.2,-6.15
3D body: height 2, standoff 0, extent -0.9,-6.985 0.9,-5.715
3D body: height 10, standoff -3, extent -0.2,-7.82 0.2,-7.42
3D body: height 2, standoff 0, extent -0.9,-8.255 0.9,-6.985
3D body: height 2, standoff 0, extent -0.9,-9.525 0.9,-8.255
3D body: height 10, standoff -3, extent -0.2,-9.09 0.2,-8.69
3D body: height 2, standoff 0, extent -0.9,-10.795 0.9,-9.525
3D body: height 10, standoff -3, extent -0.2,-10.36 0.2,-9.96

## HEAD_127_1X13 [mm] "Header 1.27mm 1x13"
pads (13):
  round 1.05 hole 0.65: 1(0,0) 2(0,-1.27) 3(0,-2.54) 4(0,-3.81) 5(0,-5.08) 6(0,-6.35) 7(0,-7.62) 8(0,-8.89) 9(0,-10.16) 10(0,-11.43) 11(0,-12.7) 12(0,-13.97) 13(0,-15.24)
Top Overlay:
  lines w0.2: -0.635,-15.875 -0.9,-15.61 -0.9,-14.87 -0.635,-14.605 -0.9,-14.34 -0.9,-13.6 -0.635,-13.335 -0.9,-13.07 -0.9,-12.33 -0.635,-12.065 -0.9,-11.8 -0.9,-11.06 -0.635,-10.795 -0.9,-10.53 -0.9,-9.79 -0.635,-9.525 -0.9,-9.26 -0.9,-8.52 -0.635,-8.255 -0.9,-7.99 -0.9,-7.25 -0.635,-6.985 -0.9,-6.72 -0.9,-5.98 -0.635,-5.715 -0.9,-5.45 -0.9,-4.71 -0.635,-4.445 -0.9,-4.18 -0.9,-3.44 -0.635,-3.175 -0.9,-2.91 -0.9,-2.17 -0.635,-1.905 -0.9,-1.64 -0.9,-0.9 -0.635,-0.635 -0.9,-0.37 -0.9,0.37 -0.635,0.635 ; 0.635,-15.875 0.9,-15.61 0.9,-14.87 0.635,-14.605 0.9,-14.34 0.9,-13.6 0.635,-13.335 0.9,-13.07 0.9,-12.33 0.635,-12.065 0.9,-11.8 0.9,-11.06 0.635,-10.795 0.9,-10.53 0.9,-9.79 0.635,-9.525 0.9,-9.26 0.9,-8.52 0.635,-8.255 0.9,-7.99 0.9,-7.25 0.635,-6.985 0.9,-6.72 0.9,-5.98 0.635,-5.715 0.9,-5.45 0.9,-4.71 0.635,-4.445 0.9,-4.18 0.9,-3.44 0.635,-3.175 0.9,-2.91 0.9,-2.17 0.635,-1.905 0.9,-1.64 0.9,-0.9 0.635,-0.635 0.9,-0.37 0.9,0.37 0.635,0.635
  text "1" at -0.642,1.636 h2
Bottom Overlay:
  text "1" at -0.642,0.864 h2
Top Assembly:
  lines w0.2: -0.635,-14.605 -0.9,-14.87 -0.9,-15.61 -0.635,-15.875 0.635,-15.875 0.9,-15.61 0.9,-14.87 0.635,-14.605 ; -0.635,-14.605 -0.9,-14.34 -0.9,-13.6 -0.635,-13.335 ; -0.635,-14.605 0.635,-14.605 ; -0.635,-13.335 -0.9,-13.07 -0.9,-12.33 -0.635,-12.065 ; -0.635,-13.335 0.635,-13.335 ; -0.635,-12.065 -0.9,-11.8 -0.9,-11.06 -0.635,-10.795 ; -0.635,-12.065 0.635,-12.065 ; -0.635,-10.795 -0.9,-10.53 -0.9,-9.79 -0.635,-9.525 ; -0.635,-10.795 0.635,-10.795 ; -0.635,-9.525 -0.9,-9.26 -0.9,-8.52 -0.635,-8.255 ; -0.635,-9.525 0.635,-9.525 ; -0.635,-8.255 0.635,-8.255 ; -0.635,-8.255 -0.9,-7.99 -0.9,-7.25 -0.635,-6.985 ; -0.635,-8.255 0.635,-8.255 ; -0.635,-6.985 0.635,-6.985 ; -0.635,-6.985 -0.9,-6.72 -0.9,-5.98 -0.635,-5.715 ; -0.635,-6.985 0.635,-6.985 ; -0.635,-5.715 0.635,-5.715 ; -0.635,-5.715 -0.9,-5.45 -0.9,-4.71 -0.635,-4.445 ; -0.635,-5.715 0.635,-5.715 ; -0.635,-4.445 0.635,-4.445 ; -0.635,-4.445 -0.9,-4.18 -0.9,-3.44 -0.635,-3.175 ; -0.635,-4.445 0.635,-4.445 ; -0.635,-3.175 0.635,-3.175 ; -0.635,-3.175 -0.9,-2.91 -0.9,-2.17 -0.635,-1.905 ; -0.635,-3.175 0.635,-3.175 ; -0.635,-1.905 0.635,-1.905 ; -0.635,-1.905 -0.9,-1.64 -0.9,-0.9 -0.635,-0.635 ; -0.635,-1.905 0.635,-1.905 ; -0.635,-0.635 0.635,-0.635 ; -0.635,-0.635 -0.9,-0.37 -0.9,0.37 -0.635,0.635 0.635,0.635 0.9,0.37 0.9,-0.37 0.635,-0.635 ; -0.635,-0.635 0.635,-0.635 ; 0.635,-14.605 0.9,-14.34 0.9,-13.6 0.635,-13.335 ; 0.635,-13.335 0.9,-13.07 0.9,-12.33 0.635,-12.065 ; 0.635,-12.065 0.9,-11.8 0.9,-11.06 0.635,-10.795 ; 0.635,-10.795 0.9,-10.53 0.9,-9.79 0.635,-9.525 ; 0.635,-9.525 0.9,-9.26 0.9,-8.52 0.635,-8.255 ; 0.635,-8.255 0.9,-7.99 0.9,-7.25 0.635,-6.985 ; 0.635,-6.985 0.9,-6.72 0.9,-5.98 0.635,-5.715 ; 0.635,-5.715 0.9,-5.45 0.9,-4.71 0.635,-4.445 ; 0.635,-4.445 0.9,-4.18 0.9,-3.44 0.635,-3.175 ; 0.635,-3.175 0.9,-2.91 0.9,-2.17 0.635,-1.905 ; 0.635,-1.905 0.9,-1.64 0.9,-0.9 0.635,-0.635
3D body: height 2, standoff 0, extent -0.9,-15.875 0.9,-14.605
3D body: height 10, standoff -3, extent -0.2,-15.44 0.2,-15.04
3D body: height 2, standoff 0, extent -0.9,-14.605 0.9,-13.335
3D body: height 10, standoff -3, extent -0.2,-14.17 0.2,-13.77
3D body: height 2, standoff 0, extent -0.9,-13.335 0.9,-12.065
3D body: height 10, standoff -3, extent -0.2,-12.9 0.2,-12.5
3D body: height 2, standoff 0, extent -0.9,-12.065 0.9,-10.795
3D body: height 10, standoff -3, extent -0.2,-11.63 0.2,-11.23
3D body: height 10, standoff -3, extent -0.2,-0.2 0.2,0.2
3D body: height 2, standoff 0, extent -0.9,-0.635 0.9,0.635
3D body: height 10, standoff -3, extent -0.2,-1.47 0.2,-1.07
3D body: height 2, standoff 0, extent -0.9,-1.905 0.9,-0.635
3D body: height 10, standoff -3, extent -0.2,-2.74 0.2,-2.34
3D body: height 2, standoff 0, extent -0.9,-3.175 0.9,-1.905
3D body: height 10, standoff -3, extent -0.2,-4.01 0.2,-3.61
3D body: height 2, standoff 0, extent -0.9,-4.445 0.9,-3.175
3D body: height 10, standoff -3, extent -0.2,-5.28 0.2,-4.88
3D body: height 2, standoff 0, extent -0.9,-5.715 0.9,-4.445
3D body: height 10, standoff -3, extent -0.2,-6.55 0.2,-6.15
3D body: height 2, standoff 0, extent -0.9,-6.985 0.9,-5.715
3D body: height 10, standoff -3, extent -0.2,-7.82 0.2,-7.42
3D body: height 2, standoff 0, extent -0.9,-8.255 0.9,-6.985
3D body: height 2, standoff 0, extent -0.9,-9.525 0.9,-8.255
3D body: height 10, standoff -3, extent -0.2,-9.09 0.2,-8.69
3D body: height 2, standoff 0, extent -0.9,-10.795 0.9,-9.525
3D body: height 10, standoff -3, extent -0.2,-10.36 0.2,-9.96

## HEAD_127_1X14 [mm] "Header 1.27mm 1x14"
pads (14):
  round 1.05 hole 0.65: 1(0,0) 2(0,-1.27) 3(0,-2.54) 4(0,-3.81) 5(0,-5.08) 6(0,-6.35) 7(0,-7.62) 8(0,-8.89) 9(0,-10.16) 10(0,-11.43) 11(0,-12.7) 12(0,-13.97) 13(0,-15.24) 14(0,-16.51)
Top Overlay:
  lines w0.2: -0.635,-17.145 -0.9,-16.88 -0.9,-16.14 -0.635,-15.875 -0.9,-15.61 -0.9,-14.87 -0.635,-14.605 -0.9,-14.34 -0.9,-13.6 -0.635,-13.335 -0.9,-13.07 -0.9,-12.33 -0.635,-12.065 -0.9,-11.8 -0.9,-11.06 -0.635,-10.795 -0.9,-10.53 -0.9,-9.79 -0.635,-9.525 -0.9,-9.26 -0.9,-8.52 -0.635,-8.255 -0.9,-7.99 -0.9,-7.25 -0.635,-6.985 -0.9,-6.72 -0.9,-5.98 -0.635,-5.715 -0.9,-5.45 -0.9,-4.71 -0.635,-4.445 -0.9,-4.18 -0.9,-3.44 -0.635,-3.175 -0.9,-2.91 -0.9,-2.17 -0.635,-1.905 -0.9,-1.64 -0.9,-0.9 -0.635,-0.635 -0.9,-0.37 -0.9,0.37 -0.635,0.635 ; 0.635,-17.145 0.9,-16.88 0.9,-16.14 0.635,-15.875 0.9,-15.61 0.9,-14.87 0.635,-14.605 0.9,-14.34 0.9,-13.6 0.635,-13.335 0.9,-13.07 0.9,-12.33 0.635,-12.065 0.9,-11.8 0.9,-11.06 0.635,-10.795 0.9,-10.53 0.9,-9.79 0.635,-9.525 0.9,-9.26 0.9,-8.52 0.635,-8.255 0.9,-7.99 0.9,-7.25 0.635,-6.985 0.9,-6.72 0.9,-5.98 0.635,-5.715 0.9,-5.45 0.9,-4.71 0.635,-4.445 0.9,-4.18 0.9,-3.44 0.635,-3.175 0.9,-2.91 0.9,-2.17 0.635,-1.905 0.9,-1.64 0.9,-0.9 0.635,-0.635 0.9,-0.37 0.9,0.37 0.635,0.635
  text "1" at -0.642,1.636 h2
Bottom Overlay:
  text "1" at -0.642,0.864 h2
Top Assembly:
  lines w0.2: -0.635,-15.875 -0.9,-16.14 -0.9,-16.88 -0.635,-17.145 0.635,-17.145 0.9,-16.88 0.9,-16.14 0.635,-15.875 ; -0.635,-15.875 -0.9,-15.61 -0.9,-14.87 -0.635,-14.605 ; -0.635,-15.875 0.635,-15.875 ; -0.635,-14.605 -0.9,-14.34 -0.9,-13.6 -0.635,-13.335 ; -0.635,-14.605 0.635,-14.605 ; -0.635,-13.335 -0.9,-13.07 -0.9,-12.33 -0.635,-12.065 ; -0.635,-13.335 0.635,-13.335 ; -0.635,-12.065 -0.9,-11.8 -0.9,-11.06 -0.635,-10.795 ; -0.635,-12.065 0.635,-12.065 ; -0.635,-10.795 -0.9,-10.53 -0.9,-9.79 -0.635,-9.525 ; -0.635,-10.795 0.635,-10.795 ; -0.635,-9.525 -0.9,-9.26 -0.9,-8.52 -0.635,-8.255 ; -0.635,-9.525 0.635,-9.525 ; -0.635,-8.255 0.635,-8.255 ; -0.635,-8.255 -0.9,-7.99 -0.9,-7.25 -0.635,-6.985 ; -0.635,-8.255 0.635,-8.255 ; -0.635,-6.985 0.635,-6.985 ; -0.635,-6.985 -0.9,-6.72 -0.9,-5.98 -0.635,-5.715 ; -0.635,-6.985 0.635,-6.985 ; -0.635,-5.715 0.635,-5.715 ; -0.635,-5.715 -0.9,-5.45 -0.9,-4.71 -0.635,-4.445 ; -0.635,-5.715 0.635,-5.715 ; -0.635,-4.445 0.635,-4.445 ; -0.635,-4.445 -0.9,-4.18 -0.9,-3.44 -0.635,-3.175 ; -0.635,-4.445 0.635,-4.445 ; -0.635,-3.175 0.635,-3.175 ; -0.635,-3.175 -0.9,-2.91 -0.9,-2.17 -0.635,-1.905 ; -0.635,-3.175 0.635,-3.175 ; -0.635,-1.905 0.635,-1.905 ; -0.635,-1.905 -0.9,-1.64 -0.9,-0.9 -0.635,-0.635 ; -0.635,-1.905 0.635,-1.905 ; -0.635,-0.635 0.635,-0.635 ; -0.635,-0.635 -0.9,-0.37 -0.9,0.37 -0.635,0.635 0.635,0.635 0.9,0.37 0.9,-0.37 0.635,-0.635 ; -0.635,-0.635 0.635,-0.635 ; 0.635,-15.875 0.9,-15.61 0.9,-14.87 0.635,-14.605 ; 0.635,-14.605 0.9,-14.34 0.9,-13.6 0.635,-13.335 ; 0.635,-13.335 0.9,-13.07 0.9,-12.33 0.635,-12.065 ; 0.635,-12.065 0.9,-11.8 0.9,-11.06 0.635,-10.795 ; 0.635,-10.795 0.9,-10.53 0.9,-9.79 0.635,-9.525 ; 0.635,-9.525 0.9,-9.26 0.9,-8.52 0.635,-8.255 ; 0.635,-8.255 0.9,-7.99 0.9,-7.25 0.635,-6.985 ; 0.635,-6.985 0.9,-6.72 0.9,-5.98 0.635,-5.715 ; 0.635,-5.715 0.9,-5.45 0.9,-4.71 0.635,-4.445 ; 0.635,-4.445 0.9,-4.18 0.9,-3.44 0.635,-3.175 ; 0.635,-3.175 0.9,-2.91 0.9,-2.17 0.635,-1.905 ; 0.635,-1.905 0.9,-1.64 0.9,-0.9 0.635,-0.635
3D body: height 2, standoff 0, extent -0.9,-17.145 0.9,-15.875
3D body: height 10, standoff -3, extent -0.2,-16.71 0.2,-16.31
3D body: height 2, standoff 0, extent -0.9,-15.875 0.9,-14.605
3D body: height 10, standoff -3, extent -0.2,-15.44 0.2,-15.04
3D body: height 2, standoff 0, extent -0.9,-14.605 0.9,-13.335
3D body: height 10, standoff -3, extent -0.2,-14.17 0.2,-13.77
3D body: height 2, standoff 0, extent -0.9,-13.335 0.9,-12.065
3D body: height 10, standoff -3, extent -0.2,-12.9 0.2,-12.5
3D body: height 2, standoff 0, extent -0.9,-12.065 0.9,-10.795
3D body: height 10, standoff -3, extent -0.2,-11.63 0.2,-11.23
3D body: height 10, standoff -3, extent -0.2,-0.2 0.2,0.2
3D body: height 2, standoff 0, extent -0.9,-0.635 0.9,0.635
3D body: height 10, standoff -3, extent -0.2,-1.47 0.2,-1.07
3D body: height 2, standoff 0, extent -0.9,-1.905 0.9,-0.635
3D body: height 10, standoff -3, extent -0.2,-2.74 0.2,-2.34
3D body: height 2, standoff 0, extent -0.9,-3.175 0.9,-1.905
3D body: height 10, standoff -3, extent -0.2,-4.01 0.2,-3.61
3D body: height 2, standoff 0, extent -0.9,-4.445 0.9,-3.175
3D body: height 10, standoff -3, extent -0.2,-5.28 0.2,-4.88
3D body: height 2, standoff 0, extent -0.9,-5.715 0.9,-4.445
3D body: height 10, standoff -3, extent -0.2,-6.55 0.2,-6.15
3D body: height 2, standoff 0, extent -0.9,-6.985 0.9,-5.715
3D body: height 10, standoff -3, extent -0.2,-7.82 0.2,-7.42
3D body: height 2, standoff 0, extent -0.9,-8.255 0.9,-6.985
3D body: height 2, standoff 0, extent -0.9,-9.525 0.9,-8.255
3D body: height 10, standoff -3, extent -0.2,-9.09 0.2,-8.69
3D body: height 2, standoff 0, extent -0.9,-10.795 0.9,-9.525
3D body: height 10, standoff -3, extent -0.2,-10.36 0.2,-9.96

## HEAD_127_1X15 [mm] "Header 1.27mm 1x15"
pads (15):
  round 1.05 hole 0.65: 1(0,0) 2(0,-1.27) 3(0,-2.54) 4(0,-3.81) 5(0,-5.08) 6(0,-6.35) 7(0,-7.62) 8(0,-8.89) 9(0,-10.16) 10(0,-11.43) 11(0,-12.7) 12(0,-13.97) 13(0,-15.24) 14(0,-16.51) 15(0,-17.78)
Top Overlay:
  lines w0.2: -0.635,-18.415 -0.9,-18.15 -0.9,-17.41 -0.635,-17.145 -0.9,-16.88 -0.9,-16.14 -0.635,-15.875 -0.9,-15.61 -0.9,-14.87 -0.635,-14.605 -0.9,-14.34 -0.9,-13.6 -0.635,-13.335 -0.9,-13.07 -0.9,-12.33 -0.635,-12.065 -0.9,-11.8 -0.9,-11.06 -0.635,-10.795 -0.9,-10.53 -0.9,-9.79 -0.635,-9.525 -0.9,-9.26 -0.9,-8.52 -0.635,-8.255 -0.9,-7.99 -0.9,-7.25 -0.635,-6.985 -0.9,-6.72 -0.9,-5.98 -0.635,-5.715 -0.9,-5.45 -0.9,-4.71 -0.635,-4.445 -0.9,-4.18 -0.9,-3.44 -0.635,-3.175 -0.9,-2.91 -0.9,-2.17 -0.635,-1.905 -0.9,-1.64 -0.9,-0.9 -0.635,-0.635 -0.9,-0.37 -0.9,0.37 -0.635,0.635 ; 0.635,-18.415 0.9,-18.15 0.9,-17.41 0.635,-17.145 0.9,-16.88 0.9,-16.14 0.635,-15.875 0.9,-15.61 0.9,-14.87 0.635,-14.605 0.9,-14.34 0.9,-13.6 0.635,-13.335 0.9,-13.07 0.9,-12.33 0.635,-12.065 0.9,-11.8 0.9,-11.06 0.635,-10.795 0.9,-10.53 0.9,-9.79 0.635,-9.525 0.9,-9.26 0.9,-8.52 0.635,-8.255 0.9,-7.99 0.9,-7.25 0.635,-6.985 0.9,-6.72 0.9,-5.98 0.635,-5.715 0.9,-5.45 0.9,-4.71 0.635,-4.445 0.9,-4.18 0.9,-3.44 0.635,-3.175 0.9,-2.91 0.9,-2.17 0.635,-1.905 0.9,-1.64 0.9,-0.9 0.635,-0.635 0.9,-0.37 0.9,0.37 0.635,0.635
  text "1" at -0.642,1.636 h2
Bottom Overlay:
  text "1" at -0.642,0.864 h2
Top Assembly:
  lines w0.2: -0.635,-17.145 -0.9,-17.41 -0.9,-18.15 -0.635,-18.415 0.635,-18.415 0.9,-18.15 0.9,-17.41 0.635,-17.145 ; -0.635,-17.145 -0.9,-16.88 -0.9,-16.14 -0.635,-15.875 ; -0.635,-17.145 0.635,-17.145 ; -0.635,-15.875 -0.9,-15.61 -0.9,-14.87 -0.635,-14.605 ; -0.635,-15.875 0.635,-15.875 ; -0.635,-14.605 -0.9,-14.34 -0.9,-13.6 -0.635,-13.335 ; -0.635,-14.605 0.635,-14.605 ; -0.635,-13.335 -0.9,-13.07 -0.9,-12.33 -0.635,-12.065 ; -0.635,-13.335 0.635,-13.335 ; -0.635,-12.065 -0.9,-11.8 -0.9,-11.06 -0.635,-10.795 ; -0.635,-12.065 0.635,-12.065 ; -0.635,-10.795 -0.9,-10.53 -0.9,-9.79 -0.635,-9.525 ; -0.635,-10.795 0.635,-10.795 ; -0.635,-9.525 -0.9,-9.26 -0.9,-8.52 -0.635,-8.255 ; -0.635,-9.525 0.635,-9.525 ; -0.635,-8.255 0.635,-8.255 ; -0.635,-8.255 -0.9,-7.99 -0.9,-7.25 -0.635,-6.985 ; -0.635,-8.255 0.635,-8.255 ; -0.635,-6.985 0.635,-6.985 ; -0.635,-6.985 -0.9,-6.72 -0.9,-5.98 -0.635,-5.715 ; -0.635,-6.985 0.635,-6.985 ; -0.635,-5.715 0.635,-5.715 ; -0.635,-5.715 -0.9,-5.45 -0.9,-4.71 -0.635,-4.445 ; -0.635,-5.715 0.635,-5.715 ; -0.635,-4.445 0.635,-4.445 ; -0.635,-4.445 -0.9,-4.18 -0.9,-3.44 -0.635,-3.175 ; -0.635,-4.445 0.635,-4.445 ; -0.635,-3.175 0.635,-3.175 ; -0.635,-3.175 -0.9,-2.91 -0.9,-2.17 -0.635,-1.905 ; -0.635,-3.175 0.635,-3.175 ; -0.635,-1.905 0.635,-1.905 ; -0.635,-1.905 -0.9,-1.64 -0.9,-0.9 -0.635,-0.635 ; -0.635,-1.905 0.635,-1.905 ; -0.635,-0.635 0.635,-0.635 ; -0.635,-0.635 -0.9,-0.37 -0.9,0.37 -0.635,0.635 0.635,0.635 0.9,0.37 0.9,-0.37 0.635,-0.635 ; -0.635,-0.635 0.635,-0.635 ; 0.635,-17.145 0.9,-16.88 0.9,-16.14 0.635,-15.875 ; 0.635,-15.875 0.9,-15.61 0.9,-14.87 0.635,-14.605 ; 0.635,-14.605 0.9,-14.34 0.9,-13.6 0.635,-13.335 ; 0.635,-13.335 0.9,-13.07 0.9,-12.33 0.635,-12.065 ; 0.635,-12.065 0.9,-11.8 0.9,-11.06 0.635,-10.795 ; 0.635,-10.795 0.9,-10.53 0.9,-9.79 0.635,-9.525 ; 0.635,-9.525 0.9,-9.26 0.9,-8.52 0.635,-8.255 ; 0.635,-8.255 0.9,-7.99 0.9,-7.25 0.635,-6.985 ; 0.635,-6.985 0.9,-6.72 0.9,-5.98 0.635,-5.715 ; 0.635,-5.715 0.9,-5.45 0.9,-4.71 0.635,-4.445 ; 0.635,-4.445 0.9,-4.18 0.9,-3.44 0.635,-3.175 ; 0.635,-3.175 0.9,-2.91 0.9,-2.17 0.635,-1.905 ; 0.635,-1.905 0.9,-1.64 0.9,-0.9 0.635,-0.635
3D body: height 2, standoff 0, extent -0.9,-18.415 0.9,-17.145
3D body: height 10, standoff -3, extent -0.2,-17.98 0.2,-17.58
3D body: height 2, standoff 0, extent -0.9,-17.145 0.9,-15.875
3D body: height 10, standoff -3, extent -0.2,-16.71 0.2,-16.31
3D body: height 2, standoff 0, extent -0.9,-15.875 0.9,-14.605
3D body: height 10, standoff -3, extent -0.2,-15.44 0.2,-15.04
3D body: height 2, standoff 0, extent -0.9,-14.605 0.9,-13.335
3D body: height 10, standoff -3, extent -0.2,-14.17 0.2,-13.77
3D body: height 2, standoff 0, extent -0.9,-13.335 0.9,-12.065
3D body: height 10, standoff -3, extent -0.2,-12.9 0.2,-12.5
3D body: height 2, standoff 0, extent -0.9,-12.065 0.9,-10.795
3D body: height 10, standoff -3, extent -0.2,-11.63 0.2,-11.23
3D body: height 10, standoff -3, extent -0.2,-0.2 0.2,0.2
3D body: height 2, standoff 0, extent -0.9,-0.635 0.9,0.635
3D body: height 10, standoff -3, extent -0.2,-1.47 0.2,-1.07
3D body: height 2, standoff 0, extent -0.9,-1.905 0.9,-0.635
3D body: height 10, standoff -3, extent -0.2,-2.74 0.2,-2.34
3D body: height 2, standoff 0, extent -0.9,-3.175 0.9,-1.905
3D body: height 10, standoff -3, extent -0.2,-4.01 0.2,-3.61
3D body: height 2, standoff 0, extent -0.9,-4.445 0.9,-3.175
3D body: height 10, standoff -3, extent -0.2,-5.28 0.2,-4.88
3D body: height 2, standoff 0, extent -0.9,-5.715 0.9,-4.445
3D body: height 10, standoff -3, extent -0.2,-6.55 0.2,-6.15
3D body: height 2, standoff 0, extent -0.9,-6.985 0.9,-5.715
3D body: height 10, standoff -3, extent -0.2,-7.82 0.2,-7.42
3D body: height 2, standoff 0, extent -0.9,-8.255 0.9,-6.985
3D body: height 2, standoff 0, extent -0.9,-9.525 0.9,-8.255
3D body: height 10, standoff -3, extent -0.2,-9.09 0.2,-8.69
3D body: height 2, standoff 0, extent -0.9,-10.795 0.9,-9.525
3D body: height 10, standoff -3, extent -0.2,-10.36 0.2,-9.96